# Altium footprint library whong.PcbLib: 68 footprints (part 2 of 5)
Each footprint in its own frame and in the unit in brackets; x right, y up, seen from the top. Pads: shape width x height; smd on the part's side, far side on the other; paste and mask are expansions set on the pad; w line width, h text height; cw(c..) or ccw(c..) is an arc to the next point about the centre after c.
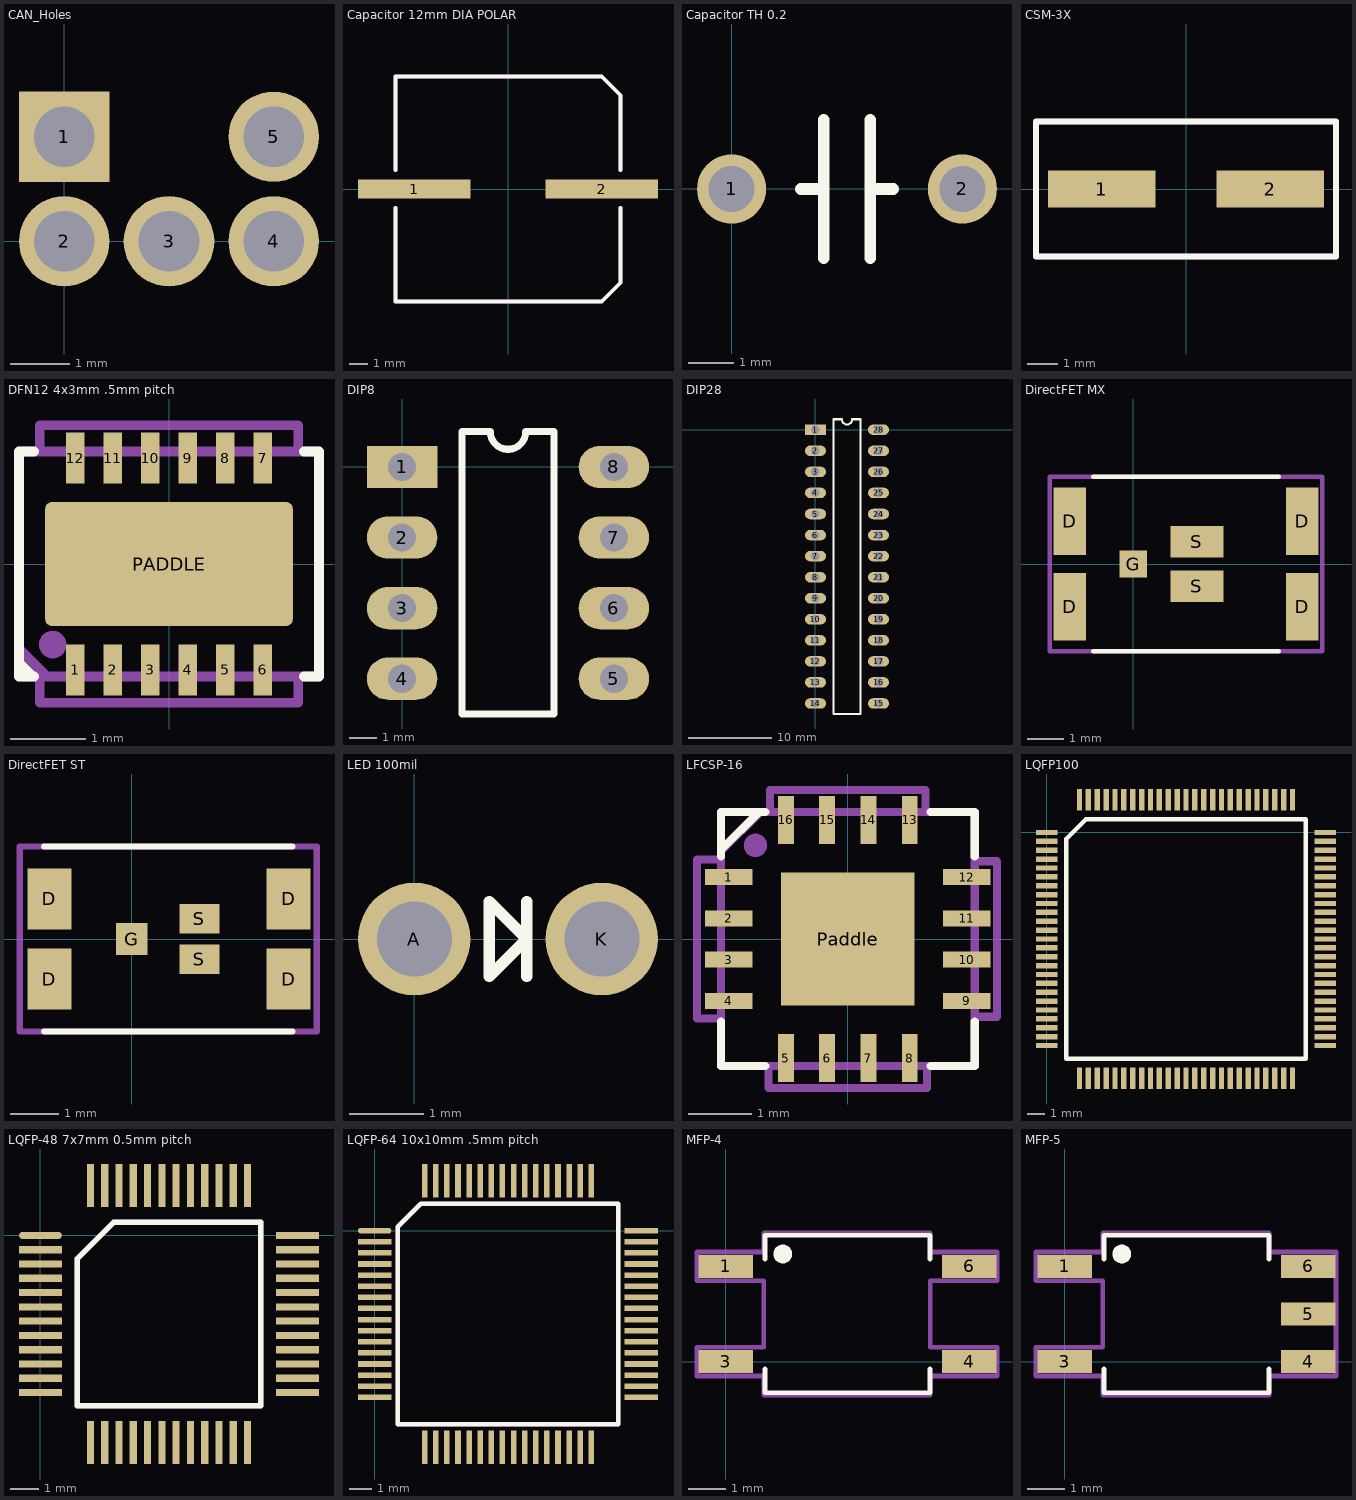
[diagram p1: the footprints below, top view; thin cyan lines are the x and y axes]

## CAN_Holes [mil]
pads (5):
  rect 60.5x60.5 hole 40.5: 1(0,70)
  round 60.5 hole 40.5: 2(0,0) 3(70,0) 4(140,0) 5(140,70)

## Capacitor 12mm DIA POLAR [mm]
pads (2):
  rect 6x1 smd: 1(-5,0) 2(5,0)
Top Overlay:
  lines w0.2: -6,-1 -6,-6 5,-6 6,-5 6,-1 ; -6,1 -6,6 5,6 6,5 6,1
Mechanical 6:
  lines w0.2: -6,-1 -6,-6 5,-6 6,-5 6,-1 ; -6,1 -6,6 5,6 6,5 6,1
  text ".designator" at -5,0 h1.02
3D body: height 11, standoff 0, extent -5.953,-5.988 6,5.988
3D body: height 2, standoff 0, extent -6,-6 6,6

## Capacitor TH 0.2 [mil]
pads (2):
  round 60 hole 40: 1(0,0) 2(200,0)
Top Overlay:
  lines w10: 60,0 80,0 ; 80,-60 80,60 ; 120,-60 120,60 ; 120,0 140,0

## CSM-3X [mm]
pads (2):
  rect 3.5x1.2 smd: 1(-2.75,0) 2(2.75,0)
Top Overlay:
  lines w0.2: -4.9,-2.2 -4.9,2.2 4.9,2.2 4.9,-2.2 -4.9,-2.2
Mechanical 6:
  lines w0.2: -4.9,-2.2 4.9,-2.2 4.9,2.2 -4.9,2.2 -4.9,-2.2
  text ".designator" at -1.5,-0.5 h0.76

## DFN12 4x3mm .5mm pitch [mm] "12 lead DFN (Dual Flat pack No leads)"
pads (13):
  rect 0.25x0.675 smd: 1(-1.25,-1.412) 2(-0.75,-1.412) 3(-0.25,-1.412) 4(0.25,-1.412) 5(0.75,-1.412) 6(1.25,-1.412) 7(1.25,1.412) 8(0.75,1.412) 9(0.25,1.412) 10(-0.25,1.412) 11(-0.75,1.412) 12(-1.25,1.412)
  rrect10% 3.3x1.65 smd: PADDLE(0,0)
Top Overlay:
  lines w0.127: -2,-1.3 -2,-1.5 -1.8,-1.5 ; -1.812,-1.5 -2,-1.312 -2,1.5 -1.8,1.5 ; 1.8,-1.5 2,-1.5 2,1.5 1.8,1.5
Mechanical 6:
  circle w0.254: c-1.55,-1.075 r0.056
  lines w0.127: -2,-1.125 -1.625,-1.5 ; -1.725,-1.5 -1.725,-1.85 1.725,-1.85 1.725,-1.5 ; -1.725,1.5 -1.725,1.85 1.725,1.85 1.725,1.5 ; -2,-1.5 -2,1.5 2,1.5 2,-1.5 -2,-1.5
  text ".designator" at -1.35,-0.275 h0.7
3D body: height 0.2, standoff 0, extent 1.125,1.12 1.375,1.5
3D body: height 0.2, standoff 0, extent 1.125,-1.5 1.375,-1.12
3D body: height 0.2, standoff 0, extent -0.375,-1.5 -0.125,-1.12
3D body: height 0.2, standoff 0, extent 0.125,-1.5 0.375,-1.12
3D body: height 0.2, standoff 0, extent 0.625,-1.5 0.875,-1.12
3D body: height 0.2, standoff 0, extent -0.875,-1.5 -0.625,-1.12
3D body: height 0.2, standoff 0, extent -1.375,-1.5 -1.125,-1.12
3D body: height 0.2, standoff 0, extent -1.375,1.12 -1.125,1.5
3D body: height 0.2, standoff 0, extent -0.875,1.12 -0.625,1.5
3D body: height 0.2, standoff 0, extent 0.625,1.12 0.875,1.5
3D body: height 0.2, standoff 0, extent 0.125,1.12 0.375,1.5
3D body: height 0.2, standoff 0, extent -0.375,1.12 -0.125,1.5
3D body: height 0.75, standoff 0.2, extent -2,-1.5 2,1.5

## DIP8 [mil]
pads (8):
  rect 100x60 / inner rect 100x50 / far side rect 100x60 hole 40: 1(0,0)
  oval 100x60 / inner oval 100x50 / far side oval 100x60 hole 40: 2(0,-100) 3(0,-200) 4(0,-300) 5(300,-300) 6(300,-200) 7(300,-100) 8(300,0)
Top Overlay:
  lines w10: 85,-350 85,50 125,50 ccw(c150,50) 175,50 215,50 215,-350 85,-350

## DIP28 [mil]
pads (28):
  rect 100x50 hole 40: 1(0,0)
  oval 100x50 hole 40: 2(0,-100) 3(0,-200) 4(0,-300) 5(0,-400) 6(0,-500) 7(0,-600) 8(0,-700) 9(0,-800) 10(0,-900) 11(0,-1000) 12(0,-1100) 13(0,-1200) 14(0,-1300) 15(300,-1300) 16(300,-1200) 17(300,-1100) 18(300,-1000) 19(300,-900) 20(300,-800) 21(300,-700) 22(300,-600) 23(300,-500) 24(300,-400) 25(300,-300) 26(300,-200) 27(300,-100) 28(300,0)
Top Overlay:
  lines w10: 85,-1350 215,-1350 215,50 175,50 cw(c150,50) 125,50 85,50 85,-1350

## DirectFET MX [mm] "DirectFET Medium Size Can"
height 0.7
pads (7):
  rect 0.9x1.85 smd: D(-1.75,-1.175) D(-1.75,1.175) D(4.65,-1.175) D(4.65,1.175)
  rect 0.75x0.75 smd: G(0,0)
  rect 1.45x0.87 smd: S(1.75,-0.61) S(1.75,0.61)
Top Overlay:
  lines w0.127: -1.1,-2.4 4,-2.4 ; -1.1,2.4 4,2.4
Mechanical 6:
  lines w0.127: -2.3,-2.4 -2.3,2.4 5.2,2.4 5.2,-2.4 -2.3,-2.4
  text ".designator" at -0.7,-0.2 h0.7
3D body: height 0.7, standoff 0, extent -1.7,-2.4 4.6,2.4

## DirectFET ST [mm] "DirectFET Small Can"
height 0.7
pads (7):
  rect 0.9x1.25 smd: D(-1.69,-0.825) D(-1.69,0.825) D(3.22,-0.825) D(3.22,0.825)
  rect 0.65x0.65 smd: G(0,0)
  rect 0.82x0.6 smd: S(1.39,-0.415) S(1.39,0.415)
Top Overlay:
  lines w0.127: -1.8,-1.9 3.3,-1.9 ; -1.8,1.9 3.3,1.9
Mechanical 6:
  lines w0.127: -2.3,-1.9 -2.3,1.9 3.8,1.9 3.8,-1.9 -2.3,-1.9
  text ".designator" at -1.3,-0.3 h0.7
3D body: height 0.7, standoff 0, extent -1.7,-1.9 3.1,1.9

## LED 100mil [mil] "LED 100mil pitch"
pads (2):
  round 60 hole 40: A(0,0) K(100,0)
Top Overlay:
  lines w6: 60,-20 60,20 ; 40,-20 40,20 60,0 40,-20

## LFCSP-16 [mm] "16 lead LFCSP-16 (very similar to QFN-16)"
height 1
pads (17):
  rect 0.75x0.25 smd: 1(-1.875,0.975) 2(-1.875,0.325) 3(-1.875,-0.325) 4(-1.875,-0.975) 9(1.875,-0.975) 10(1.875,-0.325) 11(1.875,0.325) 12(1.875,0.975)
  rect 0.25x0.75 smd: 5(-0.975,-1.875) 6(-0.325,-1.875) 7(0.325,-1.875) 8(0.975,-1.875) 13(0.975,1.875) 14(0.325,1.875) 15(-0.325,1.875) 16(-0.975,1.875)
  rect 2.1x2.1 smd: Paddle(0,0)
Top Overlay:
  lines w0.127: -2,-1.3 -2,-2 -1.3,-2 ; -2,1.3 -2,2 -1.3,2 ; -2,1.4 -1.4,2 ; 1.3,-2 2,-2 2,-1.3 ; 1.3,2 2,2 2,1.3
Mechanical 6:
  circle w0.254: c-1.456,1.475 r0.056
  lines w0.127: -2.025,-1.25 -2.375,-1.25 -2.375,1.25 -2,1.25 ; -2,1.375 -1.375,2 ; -1.25,-2 -1.25,-2.35 1.25,-2.35 1.25,-2 ; -1.225,2 -1.225,2.35 1.225,2.35 1.225,2.025 ; 2,-1.225 2.35,-1.225 2.35,1.225 2,1.225 ; -2,-2 -2,2 2,2 2,-2 -2,-2
  text ".designator" at -1.25,-0.175 h0.7
3D body: height 0.25, standoff 0.05, extent -1.7,-2 1.7,-1.25
3D body: height 0.25, standoff 0, extent -1.25,-1.25 1.25,1.25
3D body: height 1, standoff 0.25, extent -1.875,-1.875 1.875,1.875
3D body: height 0.25, standoff 0.05, extent 1.25,-1.7 2,1.7
3D body: height 0.25, standoff 0.05, extent -1.7,1.25 1.7,2
3D body: height 0.25, standoff 0.05, extent -2,-1.7 -1.25,1.7

## LQFP100 [mm]
pads (100):
  rect 1.2x0.3 smd: 1(0,0) 2(0,-0.5) 3(0,-1) 4(0,-1.5) 5(0,-2) 6(0,-2.5) 7(0,-3) 8(0,-3.5) 9(0,-4) 10(0,-4.5) 11(0,-5) 12(0,-5.5) 13(0,-6) 14(0,-6.5) 15(0,-7) 16(0,-7.5) 17(0,-8) 18(0,-8.5) 19(0,-9) 20(0,-9.5) 21(0,-10) 22(0,-10.5) 23(0,-11) 24(0,-11.5) 25(0,-12) 51(15.7,-12) 52(15.7,-11.5) 53(15.7,-11) 54(15.7,-10.5) 55(15.7,-10) 56(15.7,-9.5) 57(15.7,-9) 58(15.7,-8.5) 59(15.7,-8) 60(15.7,-7.5) 61(15.7,-7) 62(15.7,-6.5) 63(15.7,-6) 64(15.7,-5.5) 65(15.7,-5) 66(15.7,-4.5) 67(15.7,-4) 68(15.7,-3.5) 69(15.7,-3) 70(15.7,-2.5) 71(15.7,-2) 72(15.7,-1.5) 73(15.7,-1) 74(15.7,-0.5) 75(15.7,0)
  rect 0.3x1.2 smd: 26(1.85,-13.85) 27(2.35,-13.85) 28(2.85,-13.85) 29(3.35,-13.85) 30(3.85,-13.85) 31(4.35,-13.85) 32(4.85,-13.85) 33(5.35,-13.85) 34(5.85,-13.85) 35(6.35,-13.85) 36(6.85,-13.85) 37(7.35,-13.85) 38(7.85,-13.85) 39(8.35,-13.85) 40(8.85,-13.85) 41(9.35,-13.85) 42(9.85,-13.85) 43(10.35,-13.85) 44(10.85,-13.85) 45(11.35,-13.85) 46(11.85,-13.85) 47(12.35,-13.85) 48(12.85,-13.85) 49(13.35,-13.85) 50(13.85,-13.85) 76(13.85,1.85) 77(13.35,1.85) 78(12.85,1.85) 79(12.35,1.85) 80(11.85,1.85) 81(11.35,1.85) 82(10.85,1.85) 83(10.35,1.85) 84(9.85,1.85) 85(9.35,1.85) 86(8.85,1.85) 87(8.35,1.85) 88(7.85,1.85) 89(7.35,1.85) 90(6.85,1.85) 91(6.35,1.85) 92(5.85,1.85) 93(5.35,1.85) 94(4.85,1.85) 95(4.35,1.85) 96(3.85,1.85) 97(3.35,1.85) 98(2.85,1.85) 99(2.35,1.85) 100(1.85,1.85)
Top Overlay:
  lines w0.254: 1.108,-12.742 1.108,-0.366 2.216,0.742 14.592,0.742 14.592,-12.742 1.108,-12.742

## LQFP-48 7x7mm 0.5mm pitch [mm]
pads (48):
  oval 1.5x0.25 smd: 1(0,0)
  rect 1.5x0.25 smd: 2(0,-0.5) 3(0,-1) 4(0,-1.5) 5(0,-2) 6(0,-2.5) 7(0,-3) 8(0,-3.5) 9(0,-4) 10(0,-4.5) 11(0,-5) 12(0,-5.5) 25(9,-5.5) 26(9,-5) 27(9,-4.5) 28(9,-4) 29(9,-3.5) 30(9,-3) 31(9,-2.5) 32(9,-2) 33(9,-1.5) 34(9,-1) 35(9,-0.5) 36(9,0)
  rect 0.25x1.5 smd: 13(1.75,-7.25) 14(2.25,-7.25) 15(2.75,-7.25) 16(3.25,-7.25) 17(3.75,-7.25) 18(4.25,-7.25) 19(4.75,-7.25) 20(5.25,-7.25) 21(5.75,-7.25) 22(6.25,-7.25) 23(6.75,-7.25) 24(7.25,-7.25) 37(7.25,1.75) 38(6.75,1.75) 39(6.25,1.75) 40(5.75,1.75) 41(5.25,1.75) 42(4.75,1.75) 43(4.25,1.75) 44(3.75,1.75) 45(3.25,1.75) 46(2.75,1.75) 47(2.25,1.75) 48(1.75,1.75)
Top Overlay:
  lines w0.2: 1.285,-5.965 7.715,-5.965 7.715,0.465 2.57,0.465 1.285,-0.82 1.285,-5.965
Mechanical 6:
  lines w0.2: 1.285,-5.965 1.285,-0.82 2.57,0.465 7.715,0.465 7.715,-5.965 1.285,-5.965
  text ".designator" at 2,-3 h1.02

## LQFP-64 10x10mm .5mm pitch [mm]
pads (64):
  oval 1.5x0.25 smd: 1(0,0)
  rect 1.5x0.25 smd: 2(0,-0.5) 3(0,-1) 4(0,-1.5) 5(0,-2) 6(0,-2.5) 7(0,-3) 8(0,-3.5) 9(0,-4) 10(0,-4.5) 11(0,-5) 12(0,-5.5) 13(0,-6) 14(0,-6.5) 15(0,-7) 16(0,-7.5) 33(12,-7.5) 34(12,-7) 35(12,-6.5) 36(12,-6) 37(12,-5.5) 38(12,-5) 39(12,-4.5) 40(12,-4) 41(12,-3.5) 42(12,-3) 43(12,-2.5) 44(12,-2) 45(12,-1.5) 46(12,-1) 47(12,-0.5) 48(12,0)
  rect 0.25x1.5 smd: 17(2.25,-9.75) 18(2.75,-9.75) 19(3.25,-9.75) 20(3.75,-9.75) 21(4.25,-9.75) 22(4.75,-9.75) 23(5.25,-9.75) 24(5.75,-9.75) 25(6.25,-9.75) 26(6.75,-9.75) 27(7.25,-9.75) 28(7.75,-9.75) 29(8.25,-9.75) 30(8.75,-9.75) 31(9.25,-9.75) 32(9.75,-9.75) 49(9.75,2.25) 50(9.25,2.25) 51(8.75,2.25) 52(8.25,2.25) 53(7.75,2.25) 54(7.25,2.25) 55(6.75,2.25) 56(6.25,2.25) 57(5.75,2.25) 58(5.25,2.25) 59(4.75,2.25) 60(4.25,2.25) 61(3.75,2.25) 62(3.25,2.25) 63(2.75,2.25) 64(2.25,2.25)
Top Overlay:
  lines w0.2: 1.035,-8.715 10.965,-8.715 10.965,1.215 2.07,1.215 1.035,0.18 1.035,-8.715
Mechanical 6:
  lines w0.2: 1.035,-8.715 1.035,0.18 2.07,1.215 10.965,1.215 10.965,-8.715 1.035,-8.715
  text ".designator" at 2,-4 h1.02

## MFP-4 [mm] "MFP, 4 leads"
height 1
pads (4):
  rect 1.45x0.61 smd: 1(0,2.54) 3(0,0) 4(6.5,0) 6(6.5,2.54)
Top Overlay:
  circle w0.25: c1.526,2.87 r0.125
  lines w0.127: 1.049,-0.2 1.05,-0.83 5.45,-0.83 5.451,-0.2 ; 1.049,2.74 1.05,3.37 5.45,3.37 5.451,2.74
Mechanical 6:
  lines w0.127: -0.762,-0.381 1.016,-0.381 1.016,-0.889 5.461,-0.889 5.461,-0.381 7.239,-0.381 7.239,0.381 5.461,0.381 5.461,2.159 7.239,2.159 7.239,2.921 5.461,2.921 5.461,3.429 1.016,3.429 1.016,2.921 -0.762,2.921 -0.762,2.159 1.016,2.159 1.016,0.381 -0.762,0.381 -0.762,-0.381
  text ".designator" at 1.651,1.016 h0.7
3D body: height 1, standoff 0.1, extent 1.05,-0.83 5.45,3.37
3D body: height 0.6, standoff 0.5, extent 0.549,2.34 1.049,2.74
3D body: height 0.6, standoff 0, extent 0.449,2.34 0.549,2.74
3D body: height 0.1, standoff 0, extent -0.151,2.34 0.449,2.74
3D body: height 0.1, standoff 0, extent -0.151,-0.2 0.449,0.2
3D body: height 0.6, standoff 0, extent 0.449,-0.2 0.549,0.2
3D body: height 0.6, standoff 0.5, extent 0.549,-0.2 1.049,0.2
3D body: height 0.1, standoff 0, extent 6.051,-0.2 6.651,0.2
3D body: height 0.6, standoff 0, extent 5.951,-0.2 6.051,0.2
3D body: height 0.6, standoff 0.5, extent 5.451,-0.2 5.951,0.2
3D body: height 0.1, standoff 0, extent 6.051,2.34 6.651,2.74
3D body: height 0.6, standoff 0, extent 5.951,2.34 6.051,2.74
3D body: height 0.6, standoff 0.5, extent 5.451,2.34 5.951,2.74

## MFP-5 [mm] "MFP, 5 leads"
height 1
pads (5):
  rect 1.45x0.61 smd: 1(0,2.54) 3(0,0) 4(6.5,0) 5(6.5,1.27) 6(6.5,2.54)
Top Overlay:
  circle w0.25: c1.526,2.87 r0.125
  lines w0.127: 1.049,-0.2 1.05,-0.83 5.45,-0.83 5.451,-0.2 ; 1.049,2.74 1.05,3.37 5.45,3.37 5.451,2.74
Mechanical 6:
  lines w0.127: -0.762,-0.381 1.016,-0.381 1.016,-0.889 5.461,-0.889 5.461,-0.381 7.239,-0.381 7.239,2.921 5.461,2.921 5.461,3.429 1.016,3.429 1.016,2.921 -0.762,2.921 -0.762,2.159 1.016,2.159 1.016,0.381 -0.762,0.381 -0.762,-0.381
  text ".designator" at 1.651,1.016 h0.7
3D body: height 1, standoff 0.1, extent 1.05,-0.83 5.45,3.37
3D body: height 0.6, standoff 0.5, extent 0.549,2.34 1.049,2.74
3D body: height 0.6, standoff 0, extent 0.449,2.34 0.549,2.74
3D body: height 0.1, standoff 0, extent -0.151,2.34 0.449,2.74
3D body: height 0.1, standoff 0, extent -0.151,-0.2 0.449,0.2
3D body: height 0.6, standoff 0, extent 0.449,-0.2 0.549,0.2
3D body: height 0.6, standoff 0.5, extent 0.549,-0.2 1.049,0.2
3D body: height 0.1, standoff 0, extent 6.051,-0.2 6.651,0.2
3D body: height 0.6, standoff 0, extent 5.951,-0.2 6.051,0.2
3D body: height 0.6, standoff 0.5, extent 5.451,-0.2 5.951,0.2
3D body: height 0.1, standoff 0, extent 6.051,1.07 6.651,1.47
3D body: height 0.6, standoff 0, extent 5.951,1.07 6.051,1.47
3D body: height 0.6, standoff 0.5, extent 5.451,1.07 5.951,1.47
3D body: height 0.1, standoff 0, extent 6.051,2.34 6.651,2.74
3D body: height 0.6, standoff 0, extent 5.951,2.34 6.051,2.74
3D body: height 0.6, standoff 0.5, extent 5.451,2.34 5.951,2.74